# EAGLE library part CN3791 (library CN3791)
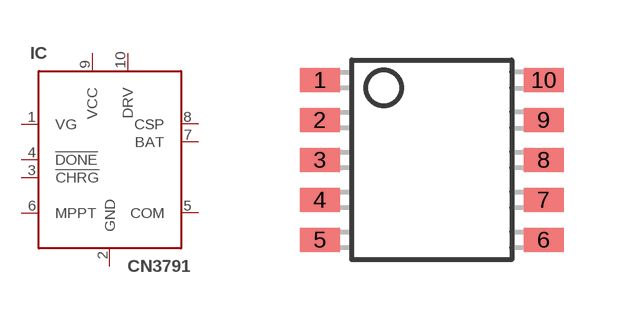
[diagram p0: symbol with the pads of SSOP-10; footprint SSOP-10]

Designator prefix IC

## CN3791  [SSOP-10]
1  VG
2  GND  pwr
3  !CHRG  oc
4  !DONE  oc
5  COM
6  MPPT  in
7  BAT  in
8  CSP  in
9  VCC  in
10  DRV  out

## Footprint SSOP-10 (pad centres in mm)
smd 1 x 0.6: 1 -2.8,2; 2 -2.8,1; 3 -2.8,0; 4 -2.8,-1; 5 -2.8,-2; 6 2.8,-2; 7 2.8,-1; 8 2.8,0; 9 2.8,1; 10 2.8,2